# Altium footprint library DB2G42600L1.PcbLib: 1 footprints
Each footprint in its own frame and in the unit in brackets; x right, y up, seen from the top. Pads: shape width x height; smd on the part's side, far side on the other; paste and mask are expansions set on the pad; w line width, h text height; cw(c..) or ccw(c..) is an arc to the next point about the centre after c.
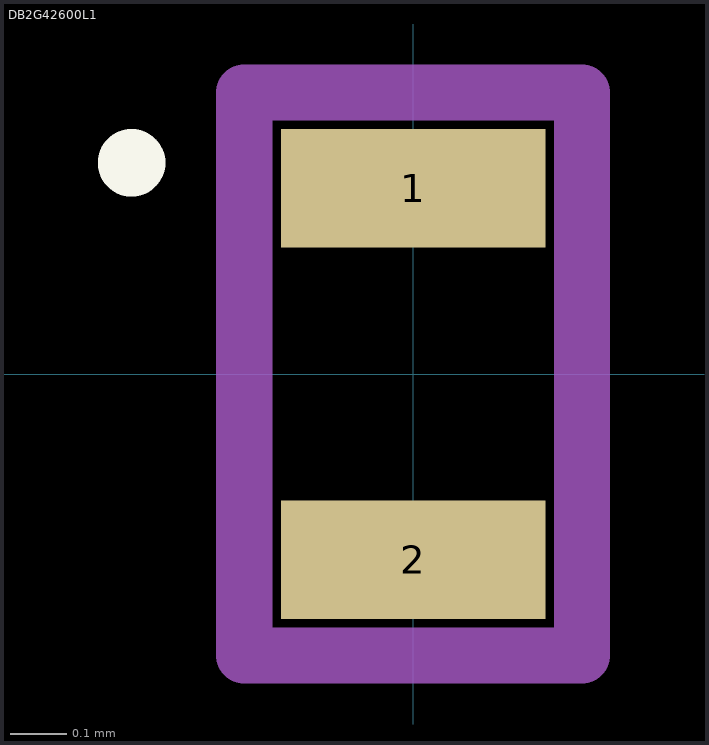
[diagram p0: the footprint, top view; thin cyan lines are the x and y axes]

## DB2G42600L1 [mm]
pads (2):
  rect 0.47x0.21 smd: 1(0,0.33) 2(0,-0.33)
Top Overlay:
  circle w0.1: c-0.5,0.375 r0.01
Mechanical 1:
  lines w0.1: -0.3,-0.5 0.3,-0.5 0.3,0.5 -0.3,0.5 -0.3,-0.5
3D body "DIODE-0402.step": height 0.56, standoff 0, extent -0.33,-0.546 0.33,0.546